# EAGLE library part 2550-5002UB (library 3M_By_element14_Batch_1)
Four-Wall Header
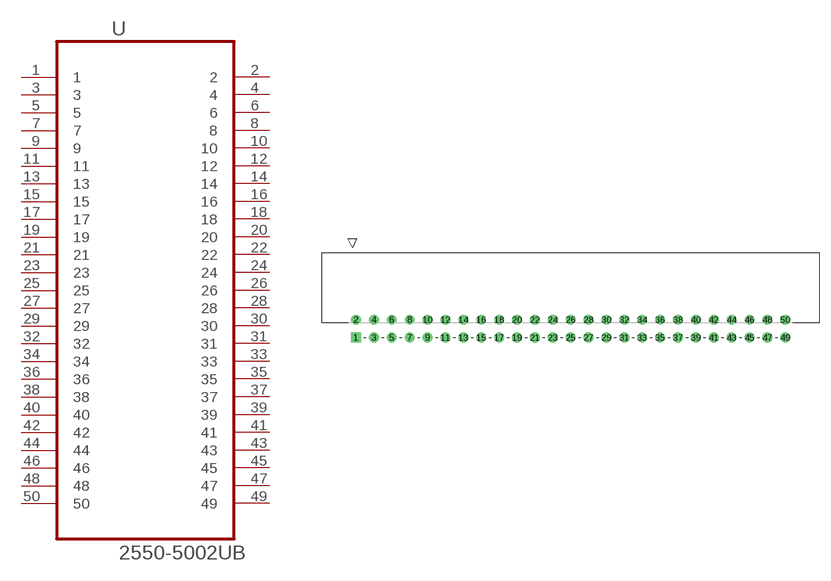
[diagram p28: symbol with the pads of 3M_2550-5002UB; footprint 3M_2550-5002UB]

Designator prefix U

## 2550-5002UB (MPN: 2550-5002UB; OC_FARNELL: 1368898; OC_NEWARK: 46F4723; PACKAGE: Header-50Pin; SUPPLIER: 3M)  [3M_2550-5002UB]
1  1  pas
2  2  pas
3  3  pas
4  4  pas
5  5  pas
6  6  pas
7  7  pas
8  8  pas
9  9  pas
10  10  pas
11  11  pas
12  12  pas
13  13  pas
14  14  pas
15  15  pas
16  16  pas
17  17  pas
18  18  pas
19  19  pas
20  20  pas
21  21  pas
22  22  pas
23  23  pas
24  24  pas
25  25  pas
26  26  pas
27  27  pas
28  28  pas
29  29  pas
30  30  pas
31  31  pas
32  32  pas
33  33  pas
34  34  pas
35  35  pas
36  36  pas
37  37  pas
38  38  pas
39  39  pas
40  40  pas
41  41  pas
42  42  pas
43  43  pas
44  44  pas
45  45  pas
46  46  pas
47  47  pas
48  48  pas
49  49  pas
50  50  pas

## Footprint 3M_2550-5002UB (pad centres in mm)
drill 0.889 square: 1 0,-0.813
drill 0.889: 2 0,1.727; 3 2.54,-0.813; 4 2.54,1.727; 5 5.08,-0.813; 6 5.08,1.727; 7 7.62,-0.813; 8 7.62,1.727; 9 10.16,-0.813; 10 10.16,1.727; 11 12.7,-0.813; 12 12.7,1.727; 13 15.24,-0.813; 14 15.24,1.727; 15 17.78,-0.813; 16 17.78,1.727; 17 20.32,-0.813; 18 20.32,1.727; 19 22.86,-0.813; 20 22.86,1.727; 21 25.4,-0.813; 22 25.4,1.727; 23 27.94,-0.813; 24 27.94,1.727; 25 30.48,-0.813; 26 30.48,1.727; 27 33.02,-0.813; 28 33.02,1.727; 29 35.56,-0.813; 30 35.56,1.727; 31 38.1,-0.813; 32 38.1,1.727; 33 40.64,-0.813; 34 40.64,1.727; 35 43.18,-0.813; 36 43.18,1.727; 37 45.72,-0.813; 38 45.72,1.727; 39 48.26,-0.813; 40 48.26,1.727; 41 50.8,-0.813; 42 50.8,1.727; 43 53.34,-0.813; 44 53.34,1.727; 45 55.88,-0.813; 46 55.88,1.727; 47 58.42,-0.813; 48 58.42,1.727; 49 60.96,-0.813; 50 60.96,1.727